# Altium footprint library A3213EUA-T (thru hole Hall effect switch).PcbLib: 1 footprints
Each footprint in its own frame and in the unit in brackets; x right, y up, seen from the top. Pads: shape width x height; smd on the part's side, far side on the other; paste and mask are expansions set on the pad; w line width, h text height; cw(c..) or ccw(c..) is an arc to the next point about the centre after c.
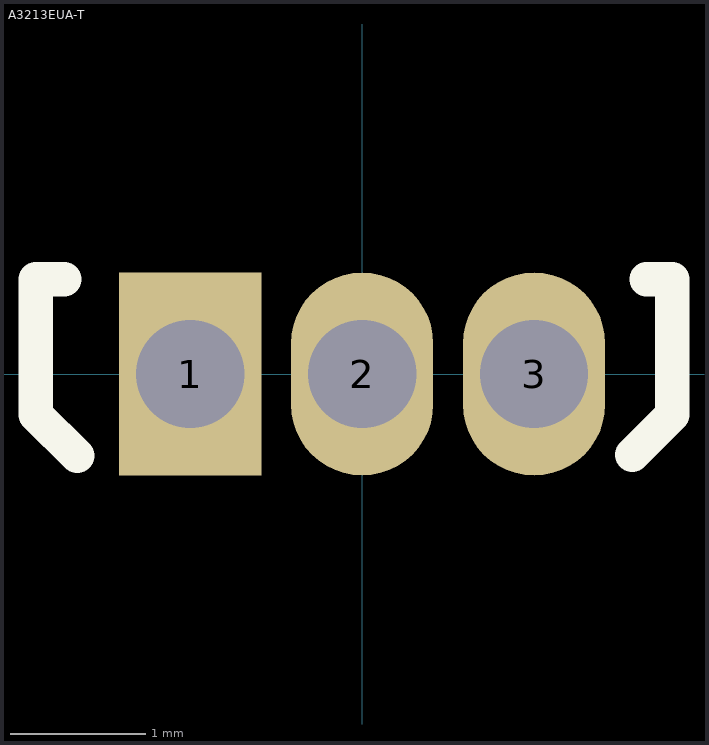
[diagram p0: the footprint, top view; thin cyan lines are the x and y axes]

## A3213EUA-T [mm] "ALLEGRO MICROSYSTEMS - A3213EUA-T - HALL EFFECT SWITCH MICROPOWER, SIP3"
height 5.26
pads (3):
  rect 1.05x1.5 hole 0.8 mask+0.08: 1(-1.27,0)
  oval 1.05x1.5 hole 0.8 mask+0.08: 2(0,0) 3(1.27,0)
Top Overlay:
  lines w0.254: -2.2,0.7 -2.41,0.7 -2.41,-0.3 -2.105,-0.605 ; 1.995,-0.595 2.29,-0.3 2.29,0.7 2.1,0.7